# EAGLE library part PCA9564 (library Philips-semiconductors2)
Parallel Bus to I²C Bus Controller
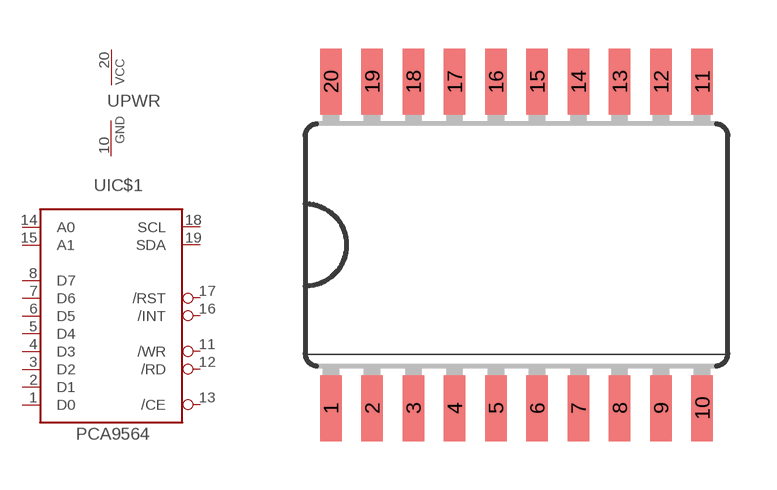
[diagram p69: symbol with the pads of SO20W; footprint SO20W]

Designator prefix -; gates PWR=PWRN IC$1=PCA9564

## PCA9564D  [SO20W]
1  IC$1:D0
2  IC$1:D1
3  IC$1:D2
4  IC$1:D3
5  IC$1:D4
6  IC$1:D5
7  IC$1:D6
8  IC$1:D7
10  PWR:GND  pwr
11  IC$1:/WR  in
12  IC$1:/RD  in
13  IC$1:/CE  in
14  IC$1:A0  in
15  IC$1:A1  in
16  IC$1:/INT  out
17  IC$1:/RST  in
18  IC$1:SCL
19  IC$1:SDA
20  PWR:VCC  pwr

## Footprint SO20W (pad centres in mm)
smd 0.66 x 2.032: 1 -5.715,-5.029; 2 -4.445,-5.029; 3 -3.175,-5.029; 4 -1.905,-5.029; 5 -0.635,-5.029; 6 0.635,-5.029; 7 1.905,-5.029; 8 3.175,-5.029; 9 4.445,-5.029; 10 5.715,-5.029; 11 5.715,5.029; 12 4.445,5.029; 13 3.175,5.029; 14 1.905,5.029; 15 0.635,5.029; 16 -0.635,5.029; 17 -1.905,5.029; 18 -3.175,5.029; 19 -4.445,5.029; 20 -5.715,5.029